# EAGLE library part IDG300 (library SparkFun)
IDG300 This is a dual axis MEMs based gyroscope sensor from Invensense. The only gyro in currently available with two axis on one chip. Works very well. Schematic and footprint are not yet production proven. Spark Fun Electronics SKU : COM-00700
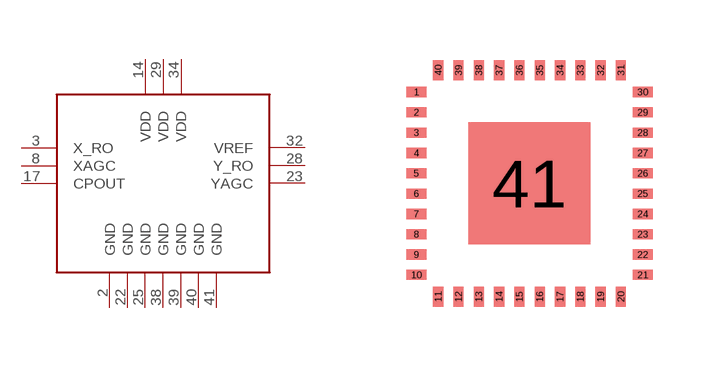
[diagram p62: symbol with the pads of IDG300; footprint IDG300]

Designator prefix -

## IDG300  [IDG300]
2  GND
3  X_RO
8  XAGC
14  VDD
17  CPOUT
22  GND
23  YAGC
25  GND
28  Y_RO
29  VDD
32  VREF
34  VDD
38  GND
39  GND
40  GND
41  GND

## Footprint IDG300 (pad centres in mm)
smd 0.508 x 0.254: 1 0,0; 2 0,-0.508; 3 0,-1.016; 4 0,-1.524; 5 0,-2.032; 6 0,-2.54; 7 0,-3.048; 8 0,-3.556; 9 0,-4.064; 10 0,-4.572; 21 5.664,-4.572; 22 5.664,-4.064; 23 5.664,-3.556; 24 5.664,-3.048; 25 5.664,-2.54; 26 5.664,-2.032; 27 5.664,-1.524; 28 5.664,-1.016; 29 5.664,-0.508; 30 5.664,0
smd 0.254 x 0.508: 11 0.546,-5.118; 12 1.054,-5.118; 13 1.562,-5.118; 14 2.07,-5.118; 15 2.578,-5.118; 16 3.086,-5.118; 17 3.594,-5.118; 18 4.102,-5.118; 19 4.61,-5.118; 20 5.118,-5.118; 31 5.118,0.546; 32 4.61,0.546; 33 4.102,0.546; 34 3.594,0.546; 35 3.086,0.546; 36 2.578,0.546; 37 2.07,0.546; 38 1.562,0.546; 39 1.054,0.546; 40 0.546,0.546
smd 3.048 x 3.048: 41 2.832,-2.286